# EAGLE library part IN-8 (library Kunosheru)
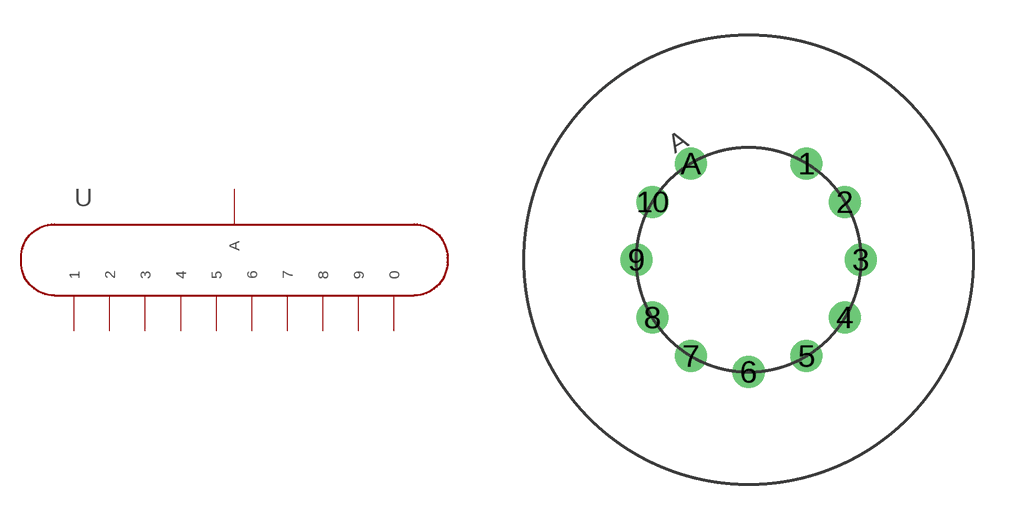
[diagram p16: symbol with the pads of IN-8; footprint IN-8]

Designator prefix -

## IN-8  [IN-8]
1  1
2  2
3  3
4  4
5  5
6  6
7  7
8  8
9  9
10  0
A  A

## Footprint IN-8 (pad centres in mm)
drill 0.85: 1 2.45,4.07; 2 4.07,2.44; 3 4.75,0; 4 4.08,-2.44; 5 2.45,-4.08; 6 0,-4.75; 7 -2.44,-4.08; 8 -4.08,-2.45; 9 -4.75,0; 10 -4.07,2.45; A -2.45,4.07